# Altium footprint library Connector_Phoenix_GMSTB.PcbLib: 88 footprints (part 6 of 6)
Each footprint in its own frame and in the unit in brackets; x right, y up, seen from the top. Pads: shape width x height; smd on the part's side, far side on the other; paste and mask are expansions set on the pad; w line width, h text height; cw(c..) or ccw(c..) is an arc to the next point about the centre after c.
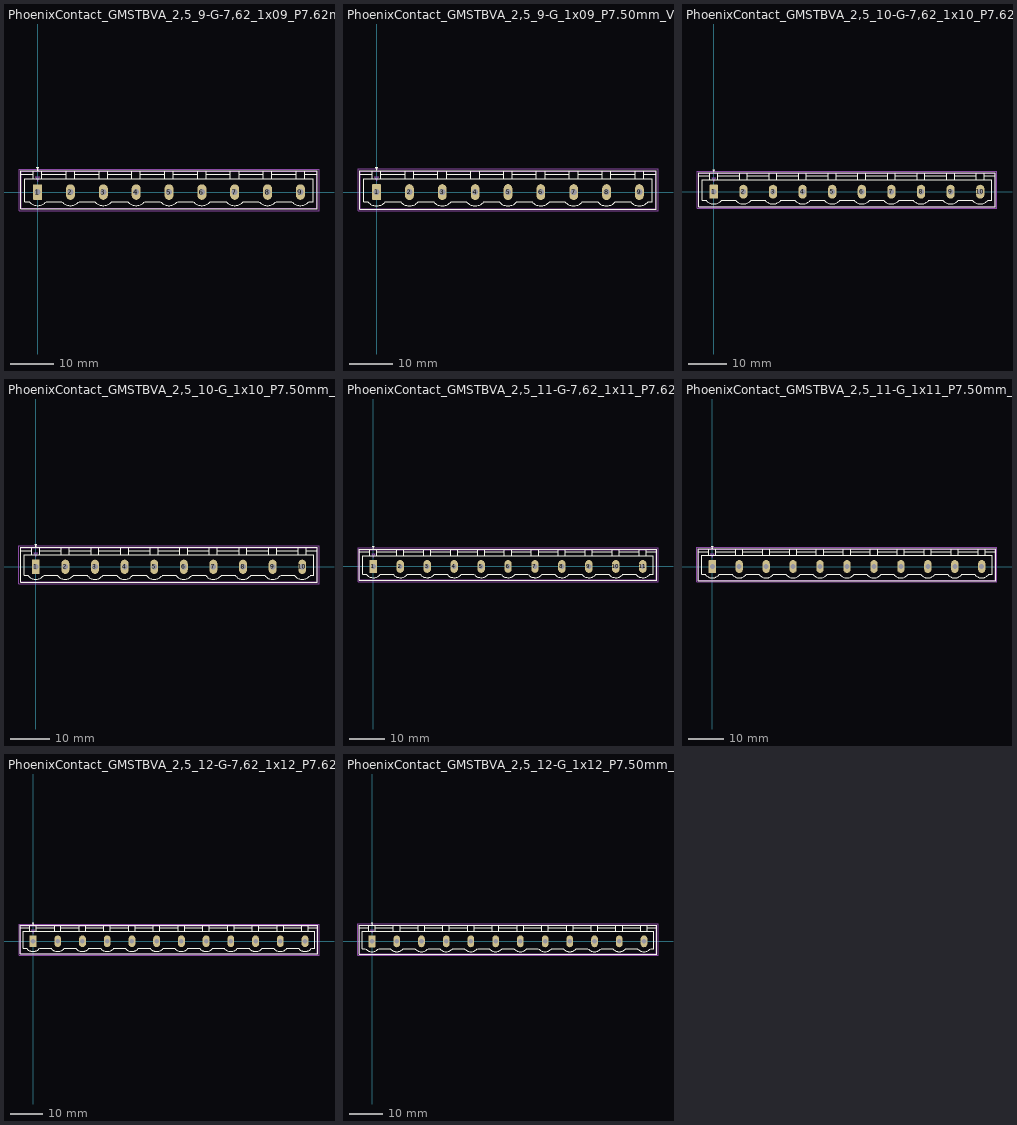
[diagram p5: the footprints below, top view; thin cyan lines are the x and y axes]

## PhoenixContact_GMSTBVA_2,5_9-G-7,62_1x09_P7.62mm_Vertical [mm]
pads (9):
  rrect12% 2.1x3.6 hole 1.4: 1(0,0)
  rrect100% 2.1x3.6 hole 1.4: 2(7.62,0) 3(15.24,0) 4(22.86,0) 5(30.48,0) 6(38.1,0) 7(45.72,0) 8(53.34,0) 9(60.96,0)
F.SilkS:
  lines w0.254: -3.92,4.1 -1.11,4.1 ; 1,4.1 6.62,4.1 ; 1.987,-2.216 cw(c0,-0.55) -2,-2.2 -3.01,-2.2 -3.01,3.1 63.97,3.1 63.97,-2.2 62.96,-2.2 ; 2,-2.2 5.62,-2.2 ccw(c7.62,-0.55) 9.607,-2.216 ; 8.62,4.1 14.24,4.1 ; 9.62,-2.2 13.24,-2.2 ccw(c15.24,-0.55) 17.227,-2.216 ; 16.24,4.1 21.86,4.1 ; 17.24,-2.2 20.86,-2.2 ccw(c22.86,-0.55) 24.847,-2.216 ; 23.86,4.1 29.48,4.1 ; 24.86,-2.2 28.48,-2.2 ccw(c30.48,-0.55) 32.467,-2.216 ; 31.48,4.1 37.1,4.1 ; 32.48,-2.2 36.1,-2.2 ccw(c38.1,-0.55) 40.087,-2.216 ; 39.1,4.1 44.72,4.1 ; 40.1,-2.2 43.72,-2.2 ccw(c45.72,-0.55) 47.707,-2.216 ; 46.72,4.1 52.34,4.1 ; 47.72,-2.2 51.34,-2.2 ccw(c53.34,-0.55) 55.327,-2.216 ; 54.34,4.1 59.96,4.1 ; 55.34,-2.2 58.96,-2.2 ccw(c60.96,-0.55) 62.947,-2.216 ; 62.07,4.1 64.88,4.1 ; -3.92,-3.91 64.88,-3.91 64.88,4.91 -3.92,4.91 -3.92,-3.91 ; -1,3.1 1,3.1 1,4.91 -1,4.91 -1,3.1 ; -0.3,5.71 0,5.11 0.3,5.71 -0.3,5.71 ; 6.62,3.1 8.62,3.1 8.62,4.91 6.62,4.91 6.62,3.1 ; 14.24,3.1 16.24,3.1 16.24,4.91 14.24,4.91 14.24,3.1 ; 21.86,3.1 23.86,3.1 23.86,4.91 21.86,4.91 21.86,3.1 ; 29.48,3.1 31.48,3.1 31.48,4.91 29.48,4.91 29.48,3.1 ; 37.1,3.1 39.1,3.1 39.1,4.91 37.1,4.91 37.1,3.1 ; 44.72,3.1 46.72,3.1 46.72,4.91 44.72,4.91 44.72,3.1 ; 52.34,3.1 54.34,3.1 54.34,4.91 52.34,4.91 52.34,3.1 ; 59.96,3.1 61.96,3.1 61.96,4.91 59.96,4.91 59.96,3.1
Top Assembly:
  lines w0.254: -3.81,-3.8 64.77,-3.8 64.77,4.8 -3.81,4.8 -3.81,-3.8 ; -0.5,3.55 0,2.55 0.5,3.55 -0.5,3.55
  text "'.Designator'" at 26.433,3.26 h1
Top Courtyard:
  lines w0.254: -4.32,-4.3 65.27,-4.3 65.27,5.3 -4.32,5.3 -4.32,-4.3
Top Designator:
  text ".Designator" at 22.857,0.197 h1.52

## PhoenixContact_GMSTBVA_2,5_9-G_1x09_P7.50mm_Vertical [mm]
pads (9):
  rrect12% 2x3.6 hole 1.4: 1(0,0)
  rrect100% 2x3.6 hole 1.4: 2(7.5,0) 3(15,0) 4(22.5,0) 5(30,0) 6(37.5,0) 7(45,0) 8(52.5,0) 9(60,0)
F.SilkS:
  lines w0.254: -3.86,4.1 -1.11,4.1 ; 1,4.1 6.5,4.1 ; 1.987,-2.216 cw(c0,-0.55) -2,-2.2 -2.95,-2.2 -2.95,3.1 62.95,3.1 62.95,-2.2 62,-2.2 ; 2,-2.2 5.5,-2.2 ccw(c7.5,-0.55) 9.487,-2.216 ; 8.5,4.1 14,4.1 ; 9.5,-2.2 13,-2.2 ccw(c15,-0.55) 16.987,-2.216 ; 16,4.1 21.5,4.1 ; 17,-2.2 20.5,-2.2 ccw(c22.5,-0.55) 24.487,-2.216 ; 23.5,4.1 29,4.1 ; 24.5,-2.2 28,-2.2 ccw(c30,-0.55) 31.987,-2.216 ; 31,4.1 36.5,4.1 ; 32,-2.2 35.5,-2.2 ccw(c37.5,-0.55) 39.487,-2.216 ; 38.5,4.1 44,4.1 ; 39.5,-2.2 43,-2.2 ccw(c45,-0.55) 46.987,-2.216 ; 46,4.1 51.5,4.1 ; 47,-2.2 50.5,-2.2 ccw(c52.5,-0.55) 54.487,-2.216 ; 53.5,4.1 59,4.1 ; 54.5,-2.2 58,-2.2 ccw(c60,-0.55) 61.987,-2.216 ; 61.11,4.1 63.86,4.1 ; -3.86,-3.91 63.86,-3.91 63.86,4.91 -3.86,4.91 -3.86,-3.91 ; -1,3.1 1,3.1 1,4.91 -1,4.91 -1,3.1 ; -0.3,5.71 0,5.11 0.3,5.71 -0.3,5.71 ; 6.5,3.1 8.5,3.1 8.5,4.91 6.5,4.91 6.5,3.1 ; 14,3.1 16,3.1 16,4.91 14,4.91 14,3.1 ; 21.5,3.1 23.5,3.1 23.5,4.91 21.5,4.91 21.5,3.1 ; 29,3.1 31,3.1 31,4.91 29,4.91 29,3.1 ; 36.5,3.1 38.5,3.1 38.5,4.91 36.5,4.91 36.5,3.1 ; 44,3.1 46,3.1 46,4.91 44,4.91 44,3.1 ; 51.5,3.1 53.5,3.1 53.5,4.91 51.5,4.91 51.5,3.1 ; 59,3.1 61,3.1 61,4.91 59,4.91 59,3.1
Top Assembly:
  lines w0.254: -3.75,-3.8 63.75,-3.8 63.75,4.8 -3.75,4.8 -3.75,-3.8 ; -0.5,3.55 0,2.55 0.5,3.55 -0.5,3.55
  text "'.Designator'" at 25.953,3.26 h1
Top Courtyard:
  lines w0.254: -4.25,-4.3 64.25,-4.3 64.25,5.3 -4.25,5.3 -4.25,-4.3
Top Designator:
  text ".Designator" at 22.382,0.197 h1.52

## PhoenixContact_GMSTBVA_2,5_10-G-7,62_1x10_P7.62mm_Vertical [mm]
pads (10):
  rrect12% 2.1x3.6 hole 1.4: 1(0,0)
  rrect100% 2.1x3.6 hole 1.4: 2(7.62,0) 3(15.24,0) 4(22.86,0) 5(30.48,0) 6(38.1,0) 7(45.72,0) 8(53.34,0) 9(60.96,0) 10(68.58,0)
F.SilkS:
  lines w0.254: -3.92,4.1 -1.11,4.1 ; 1,4.1 6.62,4.1 ; 1.987,-2.216 cw(c0,-0.55) -2,-2.2 -3.01,-2.2 -3.01,3.1 71.59,3.1 71.59,-2.2 70.58,-2.2 ; 2,-2.2 5.62,-2.2 ccw(c7.62,-0.55) 9.607,-2.216 ; 8.62,4.1 14.24,4.1 ; 9.62,-2.2 13.24,-2.2 ccw(c15.24,-0.55) 17.227,-2.216 ; 16.24,4.1 21.86,4.1 ; 17.24,-2.2 20.86,-2.2 ccw(c22.86,-0.55) 24.847,-2.216 ; 23.86,4.1 29.48,4.1 ; 24.86,-2.2 28.48,-2.2 ccw(c30.48,-0.55) 32.467,-2.216 ; 31.48,4.1 37.1,4.1 ; 32.48,-2.2 36.1,-2.2 ccw(c38.1,-0.55) 40.087,-2.216 ; 39.1,4.1 44.72,4.1 ; 40.1,-2.2 43.72,-2.2 ccw(c45.72,-0.55) 47.707,-2.216 ; 46.72,4.1 52.34,4.1 ; 47.72,-2.2 51.34,-2.2 ccw(c53.34,-0.55) 55.327,-2.216 ; 54.34,4.1 59.96,4.1 ; 55.34,-2.2 58.96,-2.2 ccw(c60.96,-0.55) 62.947,-2.216 ; 61.96,4.1 67.58,4.1 ; 62.96,-2.2 66.58,-2.2 ccw(c68.58,-0.55) 70.567,-2.216 ; 69.69,4.1 72.5,4.1 ; -3.92,-3.91 72.5,-3.91 72.5,4.91 -3.92,4.91 -3.92,-3.91 ; -1,3.1 1,3.1 1,4.91 -1,4.91 -1,3.1 ; -0.3,5.71 0,5.11 0.3,5.71 -0.3,5.71 ; 6.62,3.1 8.62,3.1 8.62,4.91 6.62,4.91 6.62,3.1 ; 14.24,3.1 16.24,3.1 16.24,4.91 14.24,4.91 14.24,3.1 ; 21.86,3.1 23.86,3.1 23.86,4.91 21.86,4.91 21.86,3.1 ; 29.48,3.1 31.48,3.1 31.48,4.91 29.48,4.91 29.48,3.1 ; 37.1,3.1 39.1,3.1 39.1,4.91 37.1,4.91 37.1,3.1 ; 44.72,3.1 46.72,3.1 46.72,4.91 44.72,4.91 44.72,3.1 ; 52.34,3.1 54.34,3.1 54.34,4.91 52.34,4.91 52.34,3.1 ; 59.96,3.1 61.96,3.1 61.96,4.91 59.96,4.91 59.96,3.1 ; 67.58,3.1 69.58,3.1 69.58,4.91 67.58,4.91 67.58,3.1
Top Assembly:
  lines w0.254: -3.81,-3.8 72.39,-3.8 72.39,4.8 -3.81,4.8 -3.81,-3.8 ; -0.5,3.55 0,2.55 0.5,3.55 -0.5,3.55
  text "'.Designator'" at 30.243,3.26 h1
Top Courtyard:
  lines w0.254: -4.32,-4.3 72.89,-4.3 72.89,5.3 -4.32,5.3 -4.32,-4.3
Top Designator:
  text ".Designator" at 26.667,0.197 h1.52

## PhoenixContact_GMSTBVA_2,5_10-G_1x10_P7.50mm_Vertical [mm]
pads (10):
  rrect12% 2x3.6 hole 1.4: 1(0,0)
  rrect100% 2x3.6 hole 1.4: 2(7.5,0) 3(15,0) 4(22.5,0) 5(30,0) 6(37.5,0) 7(45,0) 8(52.5,0) 9(60,0) 10(67.5,0)
F.SilkS:
  lines w0.254: -3.86,4.1 -1.11,4.1 ; 1,4.1 6.5,4.1 ; 1.987,-2.216 cw(c0,-0.55) -2,-2.2 -2.95,-2.2 -2.95,3.1 70.45,3.1 70.45,-2.2 69.5,-2.2 ; 2,-2.2 5.5,-2.2 ccw(c7.5,-0.55) 9.487,-2.216 ; 8.5,4.1 14,4.1 ; 9.5,-2.2 13,-2.2 ccw(c15,-0.55) 16.987,-2.216 ; 16,4.1 21.5,4.1 ; 17,-2.2 20.5,-2.2 ccw(c22.5,-0.55) 24.487,-2.216 ; 23.5,4.1 29,4.1 ; 24.5,-2.2 28,-2.2 ccw(c30,-0.55) 31.987,-2.216 ; 31,4.1 36.5,4.1 ; 32,-2.2 35.5,-2.2 ccw(c37.5,-0.55) 39.487,-2.216 ; 38.5,4.1 44,4.1 ; 39.5,-2.2 43,-2.2 ccw(c45,-0.55) 46.987,-2.216 ; 46,4.1 51.5,4.1 ; 47,-2.2 50.5,-2.2 ccw(c52.5,-0.55) 54.487,-2.216 ; 53.5,4.1 59,4.1 ; 54.5,-2.2 58,-2.2 ccw(c60,-0.55) 61.987,-2.216 ; 61,4.1 66.5,4.1 ; 62,-2.2 65.5,-2.2 ccw(c67.5,-0.55) 69.487,-2.216 ; 68.61,4.1 71.36,4.1 ; -3.86,-3.91 71.36,-3.91 71.36,4.91 -3.86,4.91 -3.86,-3.91 ; -1,3.1 1,3.1 1,4.91 -1,4.91 -1,3.1 ; -0.3,5.71 0,5.11 0.3,5.71 -0.3,5.71 ; 6.5,3.1 8.5,3.1 8.5,4.91 6.5,4.91 6.5,3.1 ; 14,3.1 16,3.1 16,4.91 14,4.91 14,3.1 ; 21.5,3.1 23.5,3.1 23.5,4.91 21.5,4.91 21.5,3.1 ; 29,3.1 31,3.1 31,4.91 29,4.91 29,3.1 ; 36.5,3.1 38.5,3.1 38.5,4.91 36.5,4.91 36.5,3.1 ; 44,3.1 46,3.1 46,4.91 44,4.91 44,3.1 ; 51.5,3.1 53.5,3.1 53.5,4.91 51.5,4.91 51.5,3.1 ; 59,3.1 61,3.1 61,4.91 59,4.91 59,3.1 ; 66.5,3.1 68.5,3.1 68.5,4.91 66.5,4.91 66.5,3.1
Top Assembly:
  lines w0.254: -3.75,-3.8 71.25,-3.8 71.25,4.8 -3.75,4.8 -3.75,-3.8 ; -0.5,3.55 0,2.55 0.5,3.55 -0.5,3.55
  text "'.Designator'" at 29.703,3.26 h1
Top Courtyard:
  lines w0.254: -4.25,-4.3 71.75,-4.3 71.75,5.3 -4.25,5.3 -4.25,-4.3
Top Designator:
  text ".Designator" at 26.132,0.197 h1.52

## PhoenixContact_GMSTBVA_2,5_11-G-7,62_1x11_P7.62mm_Vertical [mm]
pads (11):
  rrect12% 2.1x3.6 hole 1.4: 1(0,0)
  rrect100% 2.1x3.6 hole 1.4: 2(7.62,0) 3(15.24,0) 4(22.86,0) 5(30.48,0) 6(38.1,0) 7(45.72,0) 8(53.34,0) 9(60.96,0) 10(68.58,0) 11(76.2,0)
F.SilkS:
  lines w0.254: -3.92,4.1 -1.11,4.1 ; 1,4.1 6.62,4.1 ; 1.987,-2.216 cw(c0,-0.55) -2,-2.2 -3.01,-2.2 -3.01,3.1 79.21,3.1 79.21,-2.2 78.2,-2.2 ; 2,-2.2 5.62,-2.2 ccw(c7.62,-0.55) 9.607,-2.216 ; 8.62,4.1 14.24,4.1 ; 9.62,-2.2 13.24,-2.2 ccw(c15.24,-0.55) 17.227,-2.216 ; 16.24,4.1 21.86,4.1 ; 17.24,-2.2 20.86,-2.2 ccw(c22.86,-0.55) 24.847,-2.216 ; 23.86,4.1 29.48,4.1 ; 24.86,-2.2 28.48,-2.2 ccw(c30.48,-0.55) 32.467,-2.216 ; 31.48,4.1 37.1,4.1 ; 32.48,-2.2 36.1,-2.2 ccw(c38.1,-0.55) 40.087,-2.216 ; 39.1,4.1 44.72,4.1 ; 40.1,-2.2 43.72,-2.2 ccw(c45.72,-0.55) 47.707,-2.216 ; 46.72,4.1 52.34,4.1 ; 47.72,-2.2 51.34,-2.2 ccw(c53.34,-0.55) 55.327,-2.216 ; 54.34,4.1 59.96,4.1 ; 55.34,-2.2 58.96,-2.2 ccw(c60.96,-0.55) 62.947,-2.216 ; 61.96,4.1 67.58,4.1 ; 62.96,-2.2 66.58,-2.2 ccw(c68.58,-0.55) 70.567,-2.216 ; 69.58,4.1 75.2,4.1 ; 70.58,-2.2 74.2,-2.2 ccw(c76.2,-0.55) 78.187,-2.216 ; 77.31,4.1 80.12,4.1 ; -3.92,-3.91 80.12,-3.91 80.12,4.91 -3.92,4.91 -3.92,-3.91 ; -1,3.1 1,3.1 1,4.91 -1,4.91 -1,3.1 ; -0.3,5.71 0,5.11 0.3,5.71 -0.3,5.71 ; 6.62,3.1 8.62,3.1 8.62,4.91 6.62,4.91 6.62,3.1 ; 14.24,3.1 16.24,3.1 16.24,4.91 14.24,4.91 14.24,3.1 ; 21.86,3.1 23.86,3.1 23.86,4.91 21.86,4.91 21.86,3.1 ; 29.48,3.1 31.48,3.1 31.48,4.91 29.48,4.91 29.48,3.1 ; 37.1,3.1 39.1,3.1 39.1,4.91 37.1,4.91 37.1,3.1 ; 44.72,3.1 46.72,3.1 46.72,4.91 44.72,4.91 44.72,3.1 ; 52.34,3.1 54.34,3.1 54.34,4.91 52.34,4.91 52.34,3.1 ; 59.96,3.1 61.96,3.1 61.96,4.91 59.96,4.91 59.96,3.1 ; 67.58,3.1 69.58,3.1 69.58,4.91 67.58,4.91 67.58,3.1 ; 75.2,3.1 77.2,3.1 77.2,4.91 75.2,4.91 75.2,3.1
Top Assembly:
  lines w0.254: -3.81,-3.8 80.01,-3.8 80.01,4.8 -3.81,4.8 -3.81,-3.8 ; -0.5,3.55 0,2.55 0.5,3.55 -0.5,3.55
  text "'.Designator'" at 34.053,3.26 h1
Top Courtyard:
  lines w0.254: -4.32,-4.3 80.51,-4.3 80.51,5.3 -4.32,5.3 -4.32,-4.3
Top Designator:
  text ".Designator" at 30.477,0.197 h1.52

## PhoenixContact_GMSTBVA_2,5_11-G_1x11_P7.50mm_Vertical [mm]
pads (11):
  rrect12% 2x3.6 hole 1.4: 1(0,0)
  rrect100% 2x3.6 hole 1.4: 2(7.5,0) 3(15,0) 4(22.5,0) 5(30,0) 6(37.5,0) 7(45,0) 8(52.5,0) 9(60,0) 10(67.5,0) 11(75,0)
F.SilkS:
  lines w0.254: -3.86,4.1 -1.11,4.1 ; 1,4.1 6.5,4.1 ; 1.987,-2.216 cw(c0,-0.55) -2,-2.2 -2.95,-2.2 -2.95,3.1 77.95,3.1 77.95,-2.2 77,-2.2 ; 2,-2.2 5.5,-2.2 ccw(c7.5,-0.55) 9.487,-2.216 ; 8.5,4.1 14,4.1 ; 9.5,-2.2 13,-2.2 ccw(c15,-0.55) 16.987,-2.216 ; 16,4.1 21.5,4.1 ; 17,-2.2 20.5,-2.2 ccw(c22.5,-0.55) 24.487,-2.216 ; 23.5,4.1 29,4.1 ; 24.5,-2.2 28,-2.2 ccw(c30,-0.55) 31.987,-2.216 ; 31,4.1 36.5,4.1 ; 32,-2.2 35.5,-2.2 ccw(c37.5,-0.55) 39.487,-2.216 ; 38.5,4.1 44,4.1 ; 39.5,-2.2 43,-2.2 ccw(c45,-0.55) 46.987,-2.216 ; 46,4.1 51.5,4.1 ; 47,-2.2 50.5,-2.2 ccw(c52.5,-0.55) 54.487,-2.216 ; 53.5,4.1 59,4.1 ; 54.5,-2.2 58,-2.2 ccw(c60,-0.55) 61.987,-2.216 ; 61,4.1 66.5,4.1 ; 62,-2.2 65.5,-2.2 ccw(c67.5,-0.55) 69.487,-2.216 ; 68.5,4.1 74,4.1 ; 69.5,-2.2 73,-2.2 ccw(c75,-0.55) 76.987,-2.216 ; 76.11,4.1 78.86,4.1 ; -3.86,-3.91 78.86,-3.91 78.86,4.91 -3.86,4.91 -3.86,-3.91 ; -1,3.1 1,3.1 1,4.91 -1,4.91 -1,3.1 ; -0.3,5.71 0,5.11 0.3,5.71 -0.3,5.71 ; 6.5,3.1 8.5,3.1 8.5,4.91 6.5,4.91 6.5,3.1 ; 14,3.1 16,3.1 16,4.91 14,4.91 14,3.1 ; 21.5,3.1 23.5,3.1 23.5,4.91 21.5,4.91 21.5,3.1 ; 29,3.1 31,3.1 31,4.91 29,4.91 29,3.1 ; 36.5,3.1 38.5,3.1 38.5,4.91 36.5,4.91 36.5,3.1 ; 44,3.1 46,3.1 46,4.91 44,4.91 44,3.1 ; 51.5,3.1 53.5,3.1 53.5,4.91 51.5,4.91 51.5,3.1 ; 59,3.1 61,3.1 61,4.91 59,4.91 59,3.1 ; 66.5,3.1 68.5,3.1 68.5,4.91 66.5,4.91 66.5,3.1 ; 74,3.1 76,3.1 76,4.91 74,4.91 74,3.1
Top Assembly:
  lines w0.254: -3.75,-3.8 78.75,-3.8 78.75,4.8 -3.75,4.8 -3.75,-3.8 ; -0.5,3.55 0,2.55 0.5,3.55 -0.5,3.55
  text "'.Designator'" at 33.453,3.26 h1
Top Courtyard:
  lines w0.254: -4.25,-4.3 79.25,-4.3 79.25,5.3 -4.25,5.3 -4.25,-4.3
Top Designator:
  text ".Designator" at 29.882,0.197 h1.52

## PhoenixContact_GMSTBVA_2,5_12-G-7,62_1x12_P7.62mm_Vertical [mm]
pads (12):
  rrect12% 2.1x3.6 hole 1.4: 1(0,0)
  rrect100% 2.1x3.6 hole 1.4: 2(7.62,0) 3(15.24,0) 4(22.86,0) 5(30.48,0) 6(38.1,0) 7(45.72,0) 8(53.34,0) 9(60.96,0) 10(68.58,0) 11(76.2,0) 12(83.82,0)
F.SilkS:
  lines w0.254: -3.92,4.1 -1.11,4.1 ; 1,4.1 6.62,4.1 ; 1.987,-2.216 cw(c0,-0.55) -2,-2.2 -3.01,-2.2 -3.01,3.1 86.83,3.1 86.83,-2.2 85.82,-2.2 ; 2,-2.2 5.62,-2.2 ccw(c7.62,-0.55) 9.607,-2.216 ; 8.62,4.1 14.24,4.1 ; 9.62,-2.2 13.24,-2.2 ccw(c15.24,-0.55) 17.227,-2.216 ; 16.24,4.1 21.86,4.1 ; 17.24,-2.2 20.86,-2.2 ccw(c22.86,-0.55) 24.847,-2.216 ; 23.86,4.1 29.48,4.1 ; 24.86,-2.2 28.48,-2.2 ccw(c30.48,-0.55) 32.467,-2.216 ; 31.48,4.1 37.1,4.1 ; 32.48,-2.2 36.1,-2.2 ccw(c38.1,-0.55) 40.087,-2.216 ; 39.1,4.1 44.72,4.1 ; 40.1,-2.2 43.72,-2.2 ccw(c45.72,-0.55) 47.707,-2.216 ; 46.72,4.1 52.34,4.1 ; 47.72,-2.2 51.34,-2.2 ccw(c53.34,-0.55) 55.327,-2.216 ; 54.34,4.1 59.96,4.1 ; 55.34,-2.2 58.96,-2.2 ccw(c60.96,-0.55) 62.947,-2.216 ; 61.96,4.1 67.58,4.1 ; 62.96,-2.2 66.58,-2.2 ccw(c68.58,-0.55) 70.567,-2.216 ; 69.58,4.1 75.2,4.1 ; 70.58,-2.2 74.2,-2.2 ccw(c76.2,-0.55) 78.187,-2.216 ; 77.2,4.1 82.82,4.1 ; 78.2,-2.2 81.82,-2.2 ccw(c83.82,-0.55) 85.807,-2.216 ; 84.93,4.1 87.74,4.1 ; -3.92,-3.91 87.74,-3.91 87.74,4.91 -3.92,4.91 -3.92,-3.91 ; -1,3.1 1,3.1 1,4.91 -1,4.91 -1,3.1 ; -0.3,5.71 0,5.11 0.3,5.71 -0.3,5.71 ; 6.62,3.1 8.62,3.1 8.62,4.91 6.62,4.91 6.62,3.1 ; 14.24,3.1 16.24,3.1 16.24,4.91 14.24,4.91 14.24,3.1 ; 21.86,3.1 23.86,3.1 23.86,4.91 21.86,4.91 21.86,3.1 ; 29.48,3.1 31.48,3.1 31.48,4.91 29.48,4.91 29.48,3.1 ; 37.1,3.1 39.1,3.1 39.1,4.91 37.1,4.91 37.1,3.1 ; 44.72,3.1 46.72,3.1 46.72,4.91 44.72,4.91 44.72,3.1 ; 52.34,3.1 54.34,3.1 54.34,4.91 52.34,4.91 52.34,3.1 ; 59.96,3.1 61.96,3.1 61.96,4.91 59.96,4.91 59.96,3.1 ; 67.58,3.1 69.58,3.1 69.58,4.91 67.58,4.91 67.58,3.1 ; 75.2,3.1 77.2,3.1 77.2,4.91 75.2,4.91 75.2,3.1 ; 82.82,3.1 84.82,3.1 84.82,4.91 82.82,4.91 82.82,3.1
Top Assembly:
  lines w0.254: -3.81,-3.8 87.63,-3.8 87.63,4.8 -3.81,4.8 -3.81,-3.8 ; -0.5,3.55 0,2.55 0.5,3.55 -0.5,3.55
  text "'.Designator'" at 37.863,3.26 h1
Top Courtyard:
  lines w0.254: -4.32,-4.3 88.13,-4.3 88.13,5.3 -4.32,5.3 -4.32,-4.3
Top Designator:
  text ".Designator" at 34.287,0.197 h1.52

## PhoenixContact_GMSTBVA_2,5_12-G_1x12_P7.50mm_Vertical [mm]
pads (12):
  rrect12% 2x3.6 hole 1.4: 1(0,0)
  rrect100% 2x3.6 hole 1.4: 2(7.5,0) 3(15,0) 4(22.5,0) 5(30,0) 6(37.5,0) 7(45,0) 8(52.5,0) 9(60,0) 10(67.5,0) 11(75,0) 12(82.5,0)
F.SilkS:
  lines w0.254: -3.86,4.1 -1.11,4.1 ; 1,4.1 6.5,4.1 ; 1.987,-2.216 cw(c0,-0.55) -2,-2.2 -2.95,-2.2 -2.95,3.1 85.45,3.1 85.45,-2.2 84.5,-2.2 ; 2,-2.2 5.5,-2.2 ccw(c7.5,-0.55) 9.487,-2.216 ; 8.5,4.1 14,4.1 ; 9.5,-2.2 13,-2.2 ccw(c15,-0.55) 16.987,-2.216 ; 16,4.1 21.5,4.1 ; 17,-2.2 20.5,-2.2 ccw(c22.5,-0.55) 24.487,-2.216 ; 23.5,4.1 29,4.1 ; 24.5,-2.2 28,-2.2 ccw(c30,-0.55) 31.987,-2.216 ; 31,4.1 36.5,4.1 ; 32,-2.2 35.5,-2.2 ccw(c37.5,-0.55) 39.487,-2.216 ; 38.5,4.1 44,4.1 ; 39.5,-2.2 43,-2.2 ccw(c45,-0.55) 46.987,-2.216 ; 46,4.1 51.5,4.1 ; 47,-2.2 50.5,-2.2 ccw(c52.5,-0.55) 54.487,-2.216 ; 53.5,4.1 59,4.1 ; 54.5,-2.2 58,-2.2 ccw(c60,-0.55) 61.987,-2.216 ; 61,4.1 66.5,4.1 ; 62,-2.2 65.5,-2.2 ccw(c67.5,-0.55) 69.487,-2.216 ; 68.5,4.1 74,4.1 ; 69.5,-2.2 73,-2.2 ccw(c75,-0.55) 76.987,-2.216 ; 76,4.1 81.5,4.1 ; 77,-2.2 80.5,-2.2 ccw(c82.5,-0.55) 84.487,-2.216 ; 83.61,4.1 86.36,4.1 ; -3.86,-3.91 86.36,-3.91 86.36,4.91 -3.86,4.91 -3.86,-3.91 ; -1,3.1 1,3.1 1,4.91 -1,4.91 -1,3.1 ; -0.3,5.71 0,5.11 0.3,5.71 -0.3,5.71 ; 6.5,3.1 8.5,3.1 8.5,4.91 6.5,4.91 6.5,3.1 ; 14,3.1 16,3.1 16,4.91 14,4.91 14,3.1 ; 21.5,3.1 23.5,3.1 23.5,4.91 21.5,4.91 21.5,3.1 ; 29,3.1 31,3.1 31,4.91 29,4.91 29,3.1 ; 36.5,3.1 38.5,3.1 38.5,4.91 36.5,4.91 36.5,3.1 ; 44,3.1 46,3.1 46,4.91 44,4.91 44,3.1 ; 51.5,3.1 53.5,3.1 53.5,4.91 51.5,4.91 51.5,3.1 ; 59,3.1 61,3.1 61,4.91 59,4.91 59,3.1 ; 66.5,3.1 68.5,3.1 68.5,4.91 66.5,4.91 66.5,3.1 ; 74,3.1 76,3.1 76,4.91 74,4.91 74,3.1 ; 81.5,3.1 83.5,3.1 83.5,4.91 81.5,4.91 81.5,3.1
Top Assembly:
  lines w0.254: -3.75,-3.8 86.25,-3.8 86.25,4.8 -3.75,4.8 -3.75,-3.8 ; -0.5,3.55 0,2.55 0.5,3.55 -0.5,3.55
  text "'.Designator'" at 37.203,3.26 h1
Top Courtyard:
  lines w0.254: -4.25,-4.3 86.75,-4.3 86.75,5.3 -4.25,5.3 -4.25,-4.3
Top Designator:
  text ".Designator" at 33.632,0.197 h1.52